# EAGLE library part RA02 (library RA02Breakout)
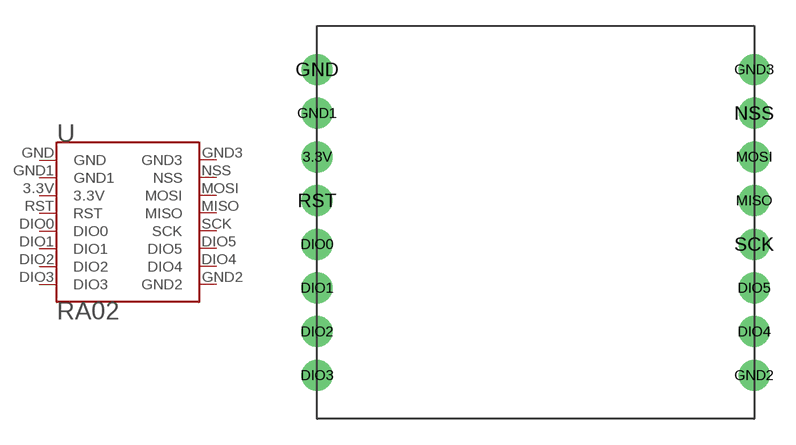
[diagram p0: symbol with the pads of RA02; footprint RA02]

Designator prefix -

## RA02  [RA02]
3.3V  3.3V
DIO0  DIO0
DIO1  DIO1
DIO2  DIO2
DIO3  DIO3
DIO4  DIO4
DIO5  DIO5
GND  GND
GND1  GND1
GND2  GND2
GND3  GND3
MISO  MISO
MOSI  MOSI
NSS  NSS
RST  RST
SCK  SCK

## Footprint RA02 (pad centres in mm)
drill 1.2: 3.3V -12.7,3.81; DIO0 -12.7,-1.27; DIO1 -12.7,-3.81; DIO2 -12.7,-6.35; DIO3 -12.7,-8.89; DIO4 12.7,-6.35; DIO5 12.7,-3.81; GND -12.7,8.89; GND1 -12.7,6.35; GND2 12.7,-8.89; GND3 12.7,8.89; MISO 12.7,1.27; MOSI 12.7,3.81; NSS 12.7,6.35; RST -12.7,1.27; SCK 12.7,-1.27